# Altium footprint library MergenElektronik_Connectors_D-Sub.PcbLib: 1 footprints
Each footprint in its own frame and in the unit in brackets; x right, y up, seen from the top. Pads: shape width x height; smd on the part's side, far side on the other; paste and mask are expansions set on the pad; w line width, h text height; cw(c..) or ccw(c..) is an arc to the next point about the centre after c.
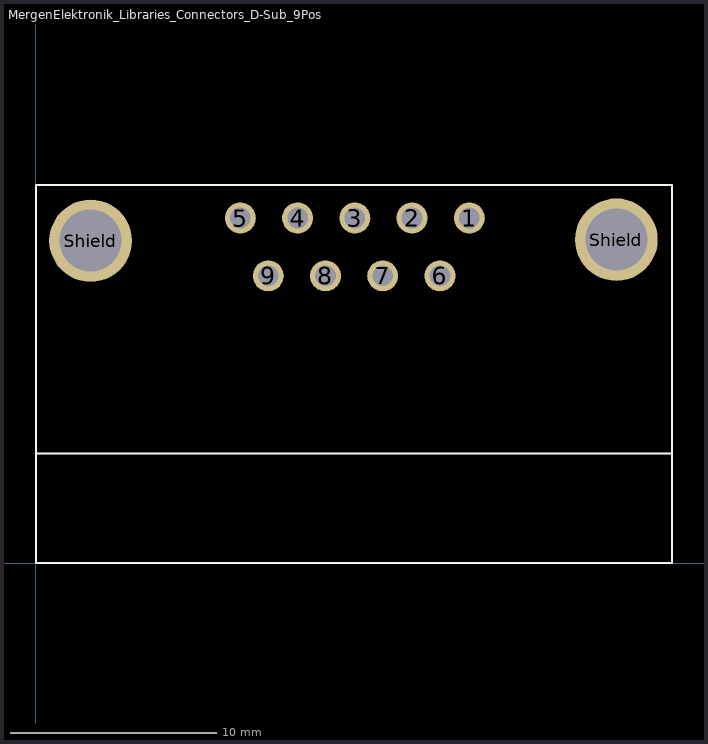
[diagram p0: the footprint, top view; thin cyan lines are the x and y axes]

## MergenElektronik_Libraries_Connectors_D-Sub_9Position [mm] "9 Position"
pads (11):
  round 1.5 hole 1: 1(20.98,16.7) 2(18.21,16.7) 3(15.44,16.7) 4(12.67,16.7) 5(9.9,16.7) 6(19.56,13.9) 7(16.79,13.9) 8(14.02,13.9) 9(11.25,13.9)
  round 4 hole 3: Shield(2.65,15.6) Shield(28.1,15.65)
Top Overlay:
  lines w0.1: 0,5.3 30.8,5.3 ; 0,0 0,18.3 30.8,18.3 30.8,0 0,0
3D body "A-DF_09_A_KG-T2S.step": height 12.8, standoff -4.4, extent 0,0 30.81,18.3